# Altium footprint library Connector_FFC-FPC.PcbLib: 184 footprints (part 2 of 12)
Each footprint in its own frame and in the unit in brackets; x right, y up, seen from the top. Pads: shape width x height; smd on the part's side, far side on the other; paste and mask are expansions set on the pad; w line width, h text height; cw(c..) or ccw(c..) is an arc to the next point about the centre after c.
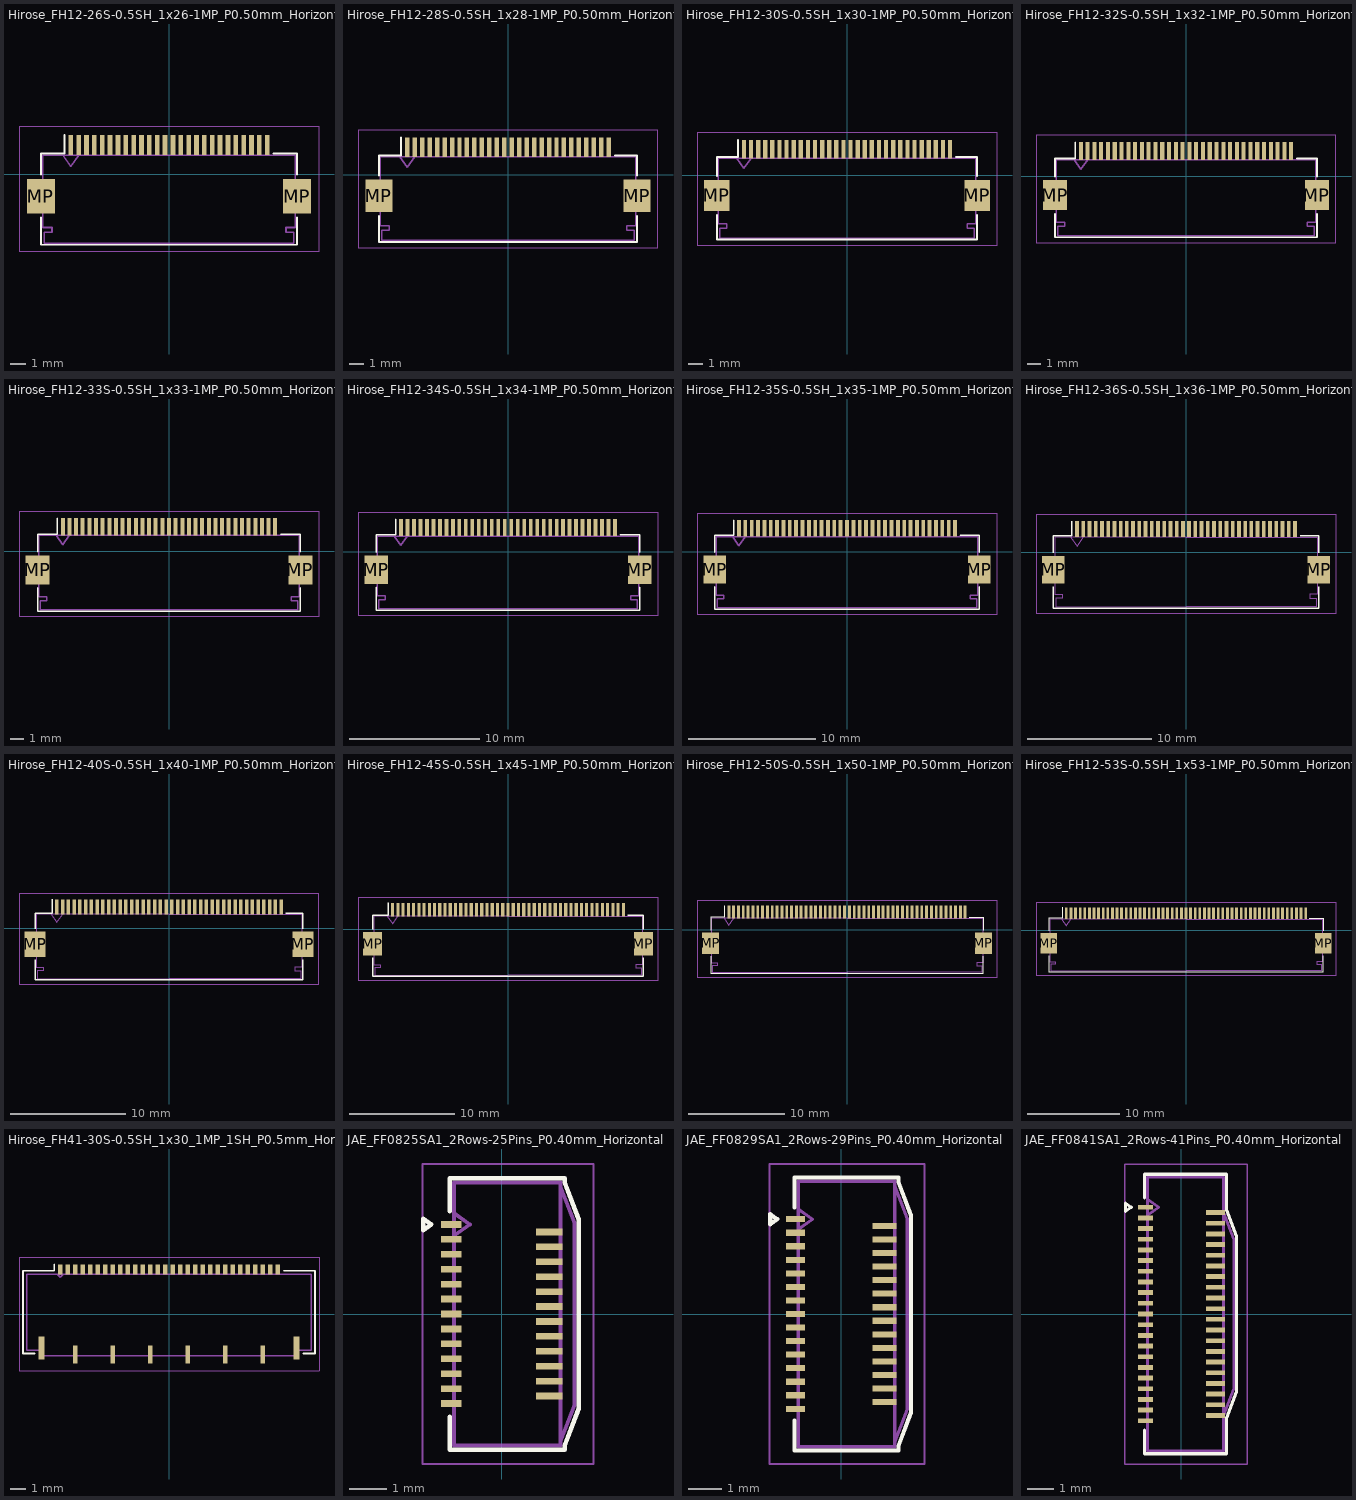
[diagram p1: the footprints below, top view; thin cyan lines are the x and y axes]

## Hirose_FH12-26S-0.5SH_1x26-1MP_P0.50mm_Horizontal [mm]
pads (28):
  rect 0.3x1.3 smd: 1(-6.25,1.85) 2(-5.75,1.85) 3(-5.25,1.85) 4(-4.75,1.85) 5(-4.25,1.85) 6(-3.75,1.85) 7(-3.25,1.85) 8(-2.75,1.85) 9(-2.25,1.85) 10(-1.75,1.85) 11(-1.25,1.85) 12(-0.75,1.85) 13(-0.25,1.85) 14(0.25,1.85) 15(0.75,1.85) 16(1.25,1.85) 17(1.75,1.85) 18(2.25,1.85) 19(2.75,1.85) 20(3.25,1.85) 21(3.75,1.85) 22(4.25,1.85) 23(4.75,1.85) 24(5.25,1.85) 25(5.75,1.85) 26(6.25,1.85)
  rect 1.8x2.2 smd: MP(-8.15,-1.4) MP(8.15,-1.4)
F.SilkS:
  lines w0.12: -8.15,-2.76 -8.15,-4.5 8.15,-4.5 8.15,-2.76 ; -8.15,-0.04 -8.15,1.3 -6.66,1.3 -6.66,2.5 ; 6.66,1.3 8.15,1.3 8.15,-0.04
F.CrtYd:
  lines w0.05: -9.55,-4.9 9.55,-4.9 9.55,3 -9.55,3 -9.55,-4.9
F.Fab:
  lines w0.1: -6.75,1.2 -6.25,0.493 -5.75,1.2 ; -8.05,-3.4 -8.05,1.2 0,1.2 8.05,1.2 8.05,-3.4 7.45,-3.4 7.45,-3.7 7.95,-3.7 7.95,-4.4 0,-4.4 -7.95,-4.4 -7.95,-3.7 -7.45,-3.7 -7.45,-3.4 -8.05,-3.4
  text "'.Designator'" at -4.047,-4.54 h1

## Hirose_FH12-28S-0.5SH_1x28-1MP_P0.50mm_Horizontal [mm]
pads (30):
  rect 0.3x1.3 smd: 1(-6.75,1.85) 2(-6.25,1.85) 3(-5.75,1.85) 4(-5.25,1.85) 5(-4.75,1.85) 6(-4.25,1.85) 7(-3.75,1.85) 8(-3.25,1.85) 9(-2.75,1.85) 10(-2.25,1.85) 11(-1.75,1.85) 12(-1.25,1.85) 13(-0.75,1.85) 14(-0.25,1.85) 15(0.25,1.85) 16(0.75,1.85) 17(1.25,1.85) 18(1.75,1.85) 19(2.25,1.85) 20(2.75,1.85) 21(3.25,1.85) 22(3.75,1.85) 23(4.25,1.85) 24(4.75,1.85) 25(5.25,1.85) 26(5.75,1.85) 27(6.25,1.85) 28(6.75,1.85)
  rect 1.8x2.2 smd: MP(-8.65,-1.4) MP(8.65,-1.4)
F.SilkS:
  lines w0.12: -8.65,-2.76 -8.65,-4.5 8.65,-4.5 8.65,-2.76 ; -8.65,-0.04 -8.65,1.3 -7.16,1.3 -7.16,2.5 ; 7.16,1.3 8.65,1.3 8.65,-0.04
F.CrtYd:
  lines w0.05: -10.05,-4.9 -10.05,3 10.05,3 10.05,-4.9 -10.05,-4.9
F.Fab:
  lines w0.1: -7.25,1.2 -6.75,0.493 -6.25,1.2 ; -8.55,-3.4 -7.95,-3.4 -7.95,-3.7 -8.45,-3.7 -8.45,-4.4 0,-4.4 8.45,-4.4 8.45,-3.7 7.95,-3.7 7.95,-3.4 8.55,-3.4 8.55,1.2 0,1.2 -8.55,1.2 -8.55,-3.4
  text "'.Designator'" at -4.047,-4.54 h1

## Hirose_FH12-30S-0.5SH_1x30-1MP_P0.50mm_Horizontal [mm]
pads (32):
  rect 0.3x1.3 smd: 1(-7.25,1.85) 2(-6.75,1.85) 3(-6.25,1.85) 4(-5.75,1.85) 5(-5.25,1.85) 6(-4.75,1.85) 7(-4.25,1.85) 8(-3.75,1.85) 9(-3.25,1.85) 10(-2.75,1.85) 11(-2.25,1.85) 12(-1.75,1.85) 13(-1.25,1.85) 14(-0.75,1.85) 15(-0.25,1.85) 16(0.25,1.85) 17(0.75,1.85) 18(1.25,1.85) 19(1.75,1.85) 20(2.25,1.85) 21(2.75,1.85) 22(3.25,1.85) 23(3.75,1.85) 24(4.25,1.85) 25(4.75,1.85) 26(5.25,1.85) 27(5.75,1.85) 28(6.25,1.85) 29(6.75,1.85) 30(7.25,1.85)
  rect 1.8x2.2 smd: MP(-9.15,-1.4) MP(9.15,-1.4)
F.SilkS:
  lines w0.12: -9.15,-2.76 -9.15,-4.5 9.15,-4.5 9.15,-2.76 ; -9.15,-0.04 -9.15,1.3 -7.66,1.3 -7.66,2.5 ; 7.66,1.3 9.15,1.3 9.15,-0.04
F.CrtYd:
  lines w0.05: -10.55,-4.9 -10.55,3 10.55,3 10.55,-4.9 -10.55,-4.9
F.Fab:
  lines w0.1: -7.75,1.2 -7.25,0.493 -6.75,1.2 ; -9.05,-3.4 -9.05,1.2 0,1.2 9.05,1.2 9.05,-3.4 8.45,-3.4 8.45,-3.7 8.95,-3.7 8.95,-4.4 0,-4.4 -8.95,-4.4 -8.95,-3.7 -8.45,-3.7 -8.45,-3.4 -9.05,-3.4
  text "'.Designator'" at -4.047,-4.54 h1

## Hirose_FH12-32S-0.5SH_1x32-1MP_P0.50mm_Horizontal [mm]
pads (34):
  rect 0.3x1.3 smd: 1(-7.75,1.85) 2(-7.25,1.85) 3(-6.75,1.85) 4(-6.25,1.85) 5(-5.75,1.85) 6(-5.25,1.85) 7(-4.75,1.85) 8(-4.25,1.85) 9(-3.75,1.85) 10(-3.25,1.85) 11(-2.75,1.85) 12(-2.25,1.85) 13(-1.75,1.85) 14(-1.25,1.85) 15(-0.75,1.85) 16(-0.25,1.85) 17(0.25,1.85) 18(0.75,1.85) 19(1.25,1.85) 20(1.75,1.85) 21(2.25,1.85) 22(2.75,1.85) 23(3.25,1.85) 24(3.75,1.85) 25(4.25,1.85) 26(4.75,1.85) 27(5.25,1.85) 28(5.75,1.85) 29(6.25,1.85) 30(6.75,1.85) 31(7.25,1.85) 32(7.75,1.85)
  rect 1.8x2.2 smd: MP(-9.65,-1.4) MP(9.65,-1.4)
F.SilkS:
  lines w0.12: -9.65,-2.76 -9.65,-4.5 9.65,-4.5 9.65,-2.76 ; -9.65,-0.04 -9.65,1.3 -8.16,1.3 -8.16,2.5 ; 8.16,1.3 9.65,1.3 9.65,-0.04
F.CrtYd:
  lines w0.05: -11.05,-4.9 11.05,-4.9 11.05,3 -11.05,3 -11.05,-4.9
F.Fab:
  lines w0.1: -8.25,1.2 -7.75,0.493 -7.25,1.2 ; -9.55,-3.4 -9.55,1.2 0,1.2 9.55,1.2 9.55,-3.4 8.95,-3.4 8.95,-3.7 9.45,-3.7 9.45,-4.4 0,-4.4 -9.45,-4.4 -9.45,-3.7 -8.95,-3.7 -8.95,-3.4 -9.55,-3.4
  text "'.Designator'" at -4.047,-4.54 h1

## Hirose_FH12-33S-0.5SH_1x33-1MP_P0.50mm_Horizontal [mm]
pads (35):
  rect 0.3x1.3 smd: 1(-8,1.85) 2(-7.5,1.85) 3(-7,1.85) 4(-6.5,1.85) 5(-6,1.85) 6(-5.5,1.85) 7(-5,1.85) 8(-4.5,1.85) 9(-4,1.85) 10(-3.5,1.85) 11(-3,1.85) 12(-2.5,1.85) 13(-2,1.85) 14(-1.5,1.85) 15(-1,1.85) 16(-0.5,1.85) 17(0,1.85) 18(0.5,1.85) 19(1,1.85) 20(1.5,1.85) 21(2,1.85) 22(2.5,1.85) 23(3,1.85) 24(3.5,1.85) 25(4,1.85) 26(4.5,1.85) 27(5,1.85) 28(5.5,1.85) 29(6,1.85) 30(6.5,1.85) 31(7,1.85) 32(7.5,1.85) 33(8,1.85)
  rect 1.8x2.2 smd: MP(-9.9,-1.4) MP(9.9,-1.4)
F.SilkS:
  lines w0.12: -9.9,-2.76 -9.9,-4.5 9.9,-4.5 9.9,-2.76 ; -9.9,-0.04 -9.9,1.3 -8.41,1.3 -8.41,2.5 ; 8.41,1.3 9.9,1.3 9.9,-0.04
F.CrtYd:
  lines w0.05: -11.3,-4.9 -11.3,3 11.3,3 11.3,-4.9 -11.3,-4.9
F.Fab:
  lines w0.1: -8.5,1.2 -8,0.493 -7.5,1.2 ; -9.8,-3.4 -9.2,-3.4 -9.2,-3.7 -9.7,-3.7 -9.7,-4.4 0,-4.4 9.7,-4.4 9.7,-3.7 9.2,-3.7 9.2,-3.4 9.8,-3.4 9.8,1.2 0,1.2 -9.8,1.2 -9.8,-3.4
  text "'.Designator'" at -4.047,-4.54 h1

## Hirose_FH12-34S-0.5SH_1x34-1MP_P0.50mm_Horizontal [mm]
pads (36):
  rect 0.3x1.3 smd: 1(-8.25,1.85) 2(-7.75,1.85) 3(-7.25,1.85) 4(-6.75,1.85) 5(-6.25,1.85) 6(-5.75,1.85) 7(-5.25,1.85) 8(-4.75,1.85) 9(-4.25,1.85) 10(-3.75,1.85) 11(-3.25,1.85) 12(-2.75,1.85) 13(-2.25,1.85) 14(-1.75,1.85) 15(-1.25,1.85) 16(-0.75,1.85) 17(-0.25,1.85) 18(0.25,1.85) 19(0.75,1.85) 20(1.25,1.85) 21(1.75,1.85) 22(2.25,1.85) 23(2.75,1.85) 24(3.25,1.85) 25(3.75,1.85) 26(4.25,1.85) 27(4.75,1.85) 28(5.25,1.85) 29(5.75,1.85) 30(6.25,1.85) 31(6.75,1.85) 32(7.25,1.85) 33(7.75,1.85) 34(8.25,1.85)
  rect 1.8x2.2 smd: MP(-10.15,-1.4) MP(10.15,-1.4)
F.SilkS:
  lines w0.12: -10.15,-2.76 -10.15,-4.5 10.15,-4.5 10.15,-2.76 ; -10.15,-0.04 -10.15,1.3 -8.66,1.3 -8.66,2.5 ; 8.66,1.3 10.15,1.3 10.15,-0.04
F.CrtYd:
  lines w0.05: -11.55,-4.9 -11.55,3 11.55,3 11.55,-4.9 -11.55,-4.9
F.Fab:
  lines w0.1: -8.75,1.2 -8.25,0.493 -7.75,1.2 ; -10.05,-3.4 -10.05,1.2 0,1.2 10.05,1.2 10.05,-3.4 9.45,-3.4 9.45,-3.7 9.95,-3.7 9.95,-4.4 0,-4.4 -9.95,-4.4 -9.95,-3.7 -9.45,-3.7 -9.45,-3.4 -10.05,-3.4
  text "'.Designator'" at -4.047,-4.54 h1

## Hirose_FH12-35S-0.5SH_1x35-1MP_P0.50mm_Horizontal [mm]
pads (37):
  rect 0.3x1.3 smd: 1(-8.5,1.85) 2(-8,1.85) 3(-7.5,1.85) 4(-7,1.85) 5(-6.5,1.85) 6(-6,1.85) 7(-5.5,1.85) 8(-5,1.85) 9(-4.5,1.85) 10(-4,1.85) 11(-3.5,1.85) 12(-3,1.85) 13(-2.5,1.85) 14(-2,1.85) 15(-1.5,1.85) 16(-1,1.85) 17(-0.5,1.85) 18(0,1.85) 19(0.5,1.85) 20(1,1.85) 21(1.5,1.85) 22(2,1.85) 23(2.5,1.85) 24(3,1.85) 25(3.5,1.85) 26(4,1.85) 27(4.5,1.85) 28(5,1.85) 29(5.5,1.85) 30(6,1.85) 31(6.5,1.85) 32(7,1.85) 33(7.5,1.85) 34(8,1.85) 35(8.5,1.85)
  rect 1.8x2.2 smd: MP(-10.4,-1.4) MP(10.4,-1.4)
F.SilkS:
  lines w0.12: -10.4,-2.76 -10.4,-4.5 10.4,-4.5 10.4,-2.76 ; -10.4,-0.04 -10.4,1.3 -8.91,1.3 -8.91,2.5 ; 8.91,1.3 10.4,1.3 10.4,-0.04
F.CrtYd:
  lines w0.05: -11.8,-4.9 11.8,-4.9 11.8,3 -11.8,3 -11.8,-4.9
F.Fab:
  lines w0.1: -9,1.2 -8.5,0.493 -8,1.2 ; -10.3,-3.4 -9.7,-3.4 -9.7,-3.7 -10.2,-3.7 -10.2,-4.4 0,-4.4 10.2,-4.4 10.2,-3.7 9.7,-3.7 9.7,-3.4 10.3,-3.4 10.3,1.2 0,1.2 -10.3,1.2 -10.3,-3.4
  text "'.Designator'" at -4.047,-4.54 h1

## Hirose_FH12-36S-0.5SH_1x36-1MP_P0.50mm_Horizontal [mm]
pads (38):
  rect 0.3x1.3 smd: 1(-8.75,1.85) 2(-8.25,1.85) 3(-7.75,1.85) 4(-7.25,1.85) 5(-6.75,1.85) 6(-6.25,1.85) 7(-5.75,1.85) 8(-5.25,1.85) 9(-4.75,1.85) 10(-4.25,1.85) 11(-3.75,1.85) 12(-3.25,1.85) 13(-2.75,1.85) 14(-2.25,1.85) 15(-1.75,1.85) 16(-1.25,1.85) 17(-0.75,1.85) 18(-0.25,1.85) 19(0.25,1.85) 20(0.75,1.85) 21(1.25,1.85) 22(1.75,1.85) 23(2.25,1.85) 24(2.75,1.85) 25(3.25,1.85) 26(3.75,1.85) 27(4.25,1.85) 28(4.75,1.85) 29(5.25,1.85) 30(5.75,1.85) 31(6.25,1.85) 32(6.75,1.85) 33(7.25,1.85) 34(7.75,1.85) 35(8.25,1.85) 36(8.75,1.85)
  rect 1.8x2.2 smd: MP(-10.65,-1.4) MP(10.65,-1.4)
F.SilkS:
  lines w0.12: -10.65,-2.76 -10.65,-4.5 10.65,-4.5 10.65,-2.76 ; -10.65,-0.04 -10.65,1.3 -9.16,1.3 -9.16,2.5 ; 9.16,1.3 10.65,1.3 10.65,-0.04
F.CrtYd:
  lines w0.05: -12.05,-4.9 12.05,-4.9 12.05,3 -12.05,3 -12.05,-4.9
F.Fab:
  lines w0.1: -9.25,1.2 -8.75,0.493 -8.25,1.2 ; -10.55,-3.4 -9.95,-3.4 -9.95,-3.7 -10.45,-3.7 -10.45,-4.4 0,-4.4 10.45,-4.4 10.45,-3.7 9.95,-3.7 9.95,-3.4 10.55,-3.4 10.55,1.2 0,1.2 -10.55,1.2 -10.55,-3.4
  text "'.Designator'" at -4.047,-4.54 h1

## Hirose_FH12-40S-0.5SH_1x40-1MP_P0.50mm_Horizontal [mm]
pads (42):
  rect 0.3x1.3 smd: 1(-9.75,1.85) 2(-9.25,1.85) 3(-8.75,1.85) 4(-8.25,1.85) 5(-7.75,1.85) 6(-7.25,1.85) 7(-6.75,1.85) 8(-6.25,1.85) 9(-5.75,1.85) 10(-5.25,1.85) 11(-4.75,1.85) 12(-4.25,1.85) 13(-3.75,1.85) 14(-3.25,1.85) 15(-2.75,1.85) 16(-2.25,1.85) 17(-1.75,1.85) 18(-1.25,1.85) 19(-0.75,1.85) 20(-0.25,1.85) 21(0.25,1.85) 22(0.75,1.85) 23(1.25,1.85) 24(1.75,1.85) 25(2.25,1.85) 26(2.75,1.85) 27(3.25,1.85) 28(3.75,1.85) 29(4.25,1.85) 30(4.75,1.85) 31(5.25,1.85) 32(5.75,1.85) 33(6.25,1.85) 34(6.75,1.85) 35(7.25,1.85) 36(7.75,1.85) 37(8.25,1.85) 38(8.75,1.85) 39(9.25,1.85) 40(9.75,1.85)
  rect 1.8x2.2 smd: MP(-11.65,-1.4) MP(11.65,-1.4)
F.SilkS:
  lines w0.12: -11.65,-2.76 -11.65,-4.5 11.65,-4.5 11.65,-2.76 ; -11.65,-0.04 -11.65,1.3 -10.16,1.3 -10.16,2.5 ; 10.16,1.3 11.65,1.3 11.65,-0.04
F.CrtYd:
  lines w0.05: -13.05,-4.9 -13.05,3 13.05,3 13.05,-4.9 -13.05,-4.9
F.Fab:
  lines w0.1: -10.25,1.2 -9.75,0.493 -9.25,1.2 ; -11.55,-3.4 -11.55,1.2 0,1.2 11.55,1.2 11.55,-3.4 10.95,-3.4 10.95,-3.7 11.45,-3.7 11.45,-4.4 0,-4.4 -11.45,-4.4 -11.45,-3.7 -10.95,-3.7 -10.95,-3.4 -11.55,-3.4
  text "'.Designator'" at -4.047,-4.54 h1

## Hirose_FH12-45S-0.5SH_1x45-1MP_P0.50mm_Horizontal [mm]
pads (47):
  rect 0.3x1.3 smd: 1(-11,1.85) 2(-10.5,1.85) 3(-10,1.85) 4(-9.5,1.85) 5(-9,1.85) 6(-8.5,1.85) 7(-8,1.85) 8(-7.5,1.85) 9(-7,1.85) 10(-6.5,1.85) 11(-6,1.85) 12(-5.5,1.85) 13(-5,1.85) 14(-4.5,1.85) 15(-4,1.85) 16(-3.5,1.85) 17(-3,1.85) 18(-2.5,1.85) 19(-2,1.85) 20(-1.5,1.85) 21(-1,1.85) 22(-0.5,1.85) 23(0,1.85) 24(0.5,1.85) 25(1,1.85) 26(1.5,1.85) 27(2,1.85) 28(2.5,1.85) 29(3,1.85) 30(3.5,1.85) 31(4,1.85) 32(4.5,1.85) 33(5,1.85) 34(5.5,1.85) 35(6,1.85) 36(6.5,1.85) 37(7,1.85) 38(7.5,1.85) 39(8,1.85) 40(8.5,1.85) 41(9,1.85) 42(9.5,1.85) 43(10,1.85) 44(10.5,1.85) 45(11,1.85)
  rect 1.8x2.2 smd: MP(-12.9,-1.4) MP(12.9,-1.4)
F.SilkS:
  lines w0.12: -12.9,-2.76 -12.9,-4.5 12.9,-4.5 12.9,-2.76 ; -12.9,-0.04 -12.9,1.3 -11.41,1.3 -11.41,2.5 ; 11.41,1.3 12.9,1.3 12.9,-0.04
F.CrtYd:
  lines w0.05: -14.3,-4.9 -14.3,3 14.3,3 14.3,-4.9 -14.3,-4.9
F.Fab:
  lines w0.1: -11.5,1.2 -11,0.493 -10.5,1.2 ; -12.8,-3.4 -12.2,-3.4 -12.2,-3.7 -12.7,-3.7 -12.7,-4.4 0,-4.4 12.7,-4.4 12.7,-3.7 12.2,-3.7 12.2,-3.4 12.8,-3.4 12.8,1.2 0,1.2 -12.8,1.2 -12.8,-3.4
  text "'.Designator'" at -4.047,-4.54 h1

## Hirose_FH12-50S-0.5SH_1x50-1MP_P0.50mm_Horizontal [mm]
pads (52):
  rect 0.3x1.3 smd: 1(-12.25,1.85) 2(-11.75,1.85) 3(-11.25,1.85) 4(-10.75,1.85) 5(-10.25,1.85) 6(-9.75,1.85) 7(-9.25,1.85) 8(-8.75,1.85) 9(-8.25,1.85) 10(-7.75,1.85) 11(-7.25,1.85) 12(-6.75,1.85) 13(-6.25,1.85) 14(-5.75,1.85) 15(-5.25,1.85) 16(-4.75,1.85) 17(-4.25,1.85) 18(-3.75,1.85) 19(-3.25,1.85) 20(-2.75,1.85) 21(-2.25,1.85) 22(-1.75,1.85) 23(-1.25,1.85) 24(-0.75,1.85) 25(-0.25,1.85) 26(0.25,1.85) 27(0.75,1.85) 28(1.25,1.85) 29(1.75,1.85) 30(2.25,1.85) 31(2.75,1.85) 32(3.25,1.85) 33(3.75,1.85) 34(4.25,1.85) 35(4.75,1.85) 36(5.25,1.85) 37(5.75,1.85) 38(6.25,1.85) 39(6.75,1.85) 40(7.25,1.85) 41(7.75,1.85) 42(8.25,1.85) 43(8.75,1.85) 44(9.25,1.85) 45(9.75,1.85) 46(10.25,1.85) 47(10.75,1.85) 48(11.25,1.85) 49(11.75,1.85) 50(12.25,1.85)
  rect 1.8x2.2 smd: MP(-14.15,-1.4) MP(14.15,-1.4)
F.SilkS:
  lines w0.12: -14.15,-2.76 -14.15,-4.5 14.15,-4.5 14.15,-2.76 ; -14.15,-0.04 -14.15,1.3 -12.66,1.3 -12.66,2.5 ; 12.66,1.3 14.15,1.3 14.15,-0.04
F.CrtYd:
  lines w0.05: -15.55,-4.9 -15.55,3 15.55,3 15.55,-4.9 -15.55,-4.9
F.Fab:
  lines w0.1: -12.75,1.2 -12.25,0.493 -11.75,1.2 ; -14.05,-3.4 -13.45,-3.4 -13.45,-3.7 -13.95,-3.7 -13.95,-4.4 0,-4.4 13.95,-4.4 13.95,-3.7 13.45,-3.7 13.45,-3.4 14.05,-3.4 14.05,1.2 0,1.2 -14.05,1.2 -14.05,-3.4
  text "'.Designator'" at -4.047,-4.54 h1

## Hirose_FH12-53S-0.5SH_1x53-1MP_P0.50mm_Horizontal [mm]
pads (55):
  rect 0.3x1.3 smd: 1(-13,1.85) 2(-12.5,1.85) 3(-12,1.85) 4(-11.5,1.85) 5(-11,1.85) 6(-10.5,1.85) 7(-10,1.85) 8(-9.5,1.85) 9(-9,1.85) 10(-8.5,1.85) 11(-8,1.85) 12(-7.5,1.85) 13(-7,1.85) 14(-6.5,1.85) 15(-6,1.85) 16(-5.5,1.85) 17(-5,1.85) 18(-4.5,1.85) 19(-4,1.85) 20(-3.5,1.85) 21(-3,1.85) 22(-2.5,1.85) 23(-2,1.85) 24(-1.5,1.85) 25(-1,1.85) 26(-0.5,1.85) 27(0,1.85) 28(0.5,1.85) 29(1,1.85) 30(1.5,1.85) 31(2,1.85) 32(2.5,1.85) 33(3,1.85) 34(3.5,1.85) 35(4,1.85) 36(4.5,1.85) 37(5,1.85) 38(5.5,1.85) 39(6,1.85) 40(6.5,1.85) 41(7,1.85) 42(7.5,1.85) 43(8,1.85) 44(8.5,1.85) 45(9,1.85) 46(9.5,1.85) 47(10,1.85) 48(10.5,1.85) 49(11,1.85) 50(11.5,1.85) 51(12,1.85) 52(12.5,1.85) 53(13,1.85)
  rect 1.8x2.2 smd: MP(-14.9,-1.4) MP(14.9,-1.4)
F.SilkS:
  lines w0.12: -14.9,-2.76 -14.9,-4.5 14.9,-4.5 14.9,-2.76 ; -14.9,-0.04 -14.9,1.3 -13.41,1.3 -13.41,2.5 ; 13.41,1.3 14.9,1.3 14.9,-0.04
F.CrtYd:
  lines w0.05: -16.3,-4.9 -16.3,3 16.3,3 16.3,-4.9 -16.3,-4.9
F.Fab:
  lines w0.1: -13.5,1.2 -13,0.493 -12.5,1.2 ; -14.8,-3.4 -14.8,1.2 0,1.2 14.8,1.2 14.8,-3.4 14.2,-3.4 14.2,-3.7 14.7,-3.7 14.7,-4.4 0,-4.4 -14.7,-4.4 -14.7,-3.7 -14.2,-3.7 -14.2,-3.4 -14.8,-3.4
  text "'.Designator'" at -4.047,-4.54 h1

## Hirose_FH41-30S-0.5SH_1x30_1MP_1SH_P0.5mm_Horizontal [mm]
pads (38):
  rect 0.3x0.65 smd: 1(-7.25,2.975) 2(-6.75,2.975) 3(-6.25,2.975) 4(-5.75,2.975) 5(-5.25,2.975) 6(-4.75,2.975) 7(-4.25,2.975) 8(-3.75,2.975) 9(-3.25,2.975) 10(-2.75,2.975) 11(-2.25,2.975) 12(-1.75,2.975) 13(-1.25,2.975) 14(-0.75,2.975) 15(-0.25,2.975) 16(0.25,2.975) 17(0.75,2.975) 18(1.25,2.975) 19(1.75,2.975) 20(2.25,2.975) 21(2.75,2.975) 22(3.25,2.975) 23(3.75,2.975) 24(4.25,2.975) 25(4.75,2.975) 26(5.25,2.975) 27(5.75,2.975) 28(6.25,2.975) 29(6.75,2.975) 30(7.25,2.975)
  rect 0.4x1.55 smd: MP(-8.5,-2.275) MP(8.5,-2.275)
  rect 0.3x1.2 smd: SH(-6.25,-2.7) SH(-3.75,-2.7) SH(-1.25,-2.7) SH(1.25,-2.7) SH(3.75,-2.7) SH(6.25,-2.7)
F.SilkS:
  lines w0.12: -8.96,-2.63 -9.73,-2.63 -9.73,2.88 -7.66,2.88 ; -7.65,2.88 -7.65,3.3 ; 7.66,2.88 9.73,2.88 9.73,-2.63 8.96,-2.63
F.CrtYd:
  lines w0.05: -10,-3.8 10,-3.8 10,3.8 -10,3.8 -10,-3.8
F.Fab:
  lines w0.1: -7.45,2.65 -7.25,2.45 -7.05,2.65 ; -9.5,-2.4 -8.475,-2.4 -8.475,-2.8 8.475,-2.8 8.475,-2.4 9.5,-2.4 9.5,2.65 -9.5,2.65 -9.5,-2.4
  text "'.Designator'" at -4.047,-0.915 h1

## JAE_FF0825SA1_2Rows-25Pins_P0.40mm_Horizontal [mm]
pads (25):
  rect 0.55x0.18 smd: 1(-1.35,2.4) 3(-1.35,2) 5(-1.35,1.6) 7(-1.35,1.2) 9(-1.35,0.8) 11(-1.35,0.4) 13(-1.35,0) 15(-1.35,-0.4) 17(-1.35,-0.8) 19(-1.35,-1.2) 21(-1.35,-1.6) 23(-1.35,-2) 25(-1.35,-2.4)
  rect 0.7x0.18 smd: 2(1.275,2.2) 4(1.275,1.8) 6(1.275,1.4) 8(1.275,1) 10(1.275,0.6) 12(1.275,0.2) 14(1.275,-0.2) 16(1.275,-0.6) 18(1.275,-1) 20(1.275,-1.4) 22(1.275,-1.8) 24(1.275,-2.2)
F.SilkS:
  lines w0.12: -1.385,-2.75 -1.385,-3.635 1.685,-3.635 1.685,-3.535 2.065,-2.535 2.065,0 2.065,2.535 1.685,3.535 1.685,3.635 -1.385,3.635 -1.385,2.75 ; -2.097,2.25 -1.885,2.4 -2.097,2.55 -2.097,2.25
F.CrtYd:
  lines w0.05: -2.12,-4.02 2.46,-4.02 2.46,4.02 -2.12,4.02 -2.12,-4.02
F.Fab:
  lines w0.1: -1.275,2.1 -0.851,2.4 -1.275,2.7 ; 1.575,-3.425 1.955,-2.425 1.955,2.425 1.575,3.425 ; -1.275,-3.525 -1.275,3.525 1.575,3.525 1.575,-3.525 -1.275,-3.525
  text "'.Designator'" at 1.62,-2.877 h0.71

## JAE_FF0829SA1_2Rows-29Pins_P0.40mm_Horizontal [mm]
pads (29):
  rect 0.55x0.18 smd: 1(-1.35,2.8) 3(-1.35,2.4) 5(-1.35,2) 7(-1.35,1.6) 9(-1.35,1.2) 11(-1.35,0.8) 13(-1.35,0.4) 15(-1.35,0) 17(-1.35,-0.4) 19(-1.35,-0.8) 21(-1.35,-1.2) 23(-1.35,-1.6) 25(-1.35,-2) 27(-1.35,-2.4) 29(-1.35,-2.8)
  rect 0.7x0.18 smd: 2(1.275,2.6) 4(1.275,2.2) 6(1.275,1.8) 8(1.275,1.4) 10(1.275,1) 12(1.275,0.6) 14(1.275,0.2) 16(1.275,-0.2) 18(1.275,-0.6) 20(1.275,-1) 22(1.275,-1.4) 24(1.275,-1.8) 26(1.275,-2.2) 28(1.275,-2.6)
F.SilkS:
  lines w0.12: -1.385,-3.15 -1.385,-4.035 1.685,-4.035 1.685,-3.91 2.065,-2.91 2.065,0 2.065,2.91 1.685,3.91 1.685,4.035 -1.385,4.035 -1.385,3.15 ; -2.097,2.65 -2.097,2.95 -1.885,2.8 -2.097,2.65
F.CrtYd:
  lines w0.05: -2.12,-4.43 -2.12,4.43 2.46,4.43 2.46,-4.43 -2.12,-4.43
F.Fab:
  lines w0.1: -1.275,2.5 -0.851,2.8 -1.275,3.1 ; 1.575,-3.8 1.955,-2.8 1.955,2.8 1.575,3.8 ; -1.275,-3.925 -1.275,3.925 1.575,3.925 1.575,-3.925 -1.275,-3.925
  text "'.Designator'" at 1.62,-2.877 h0.71

## JAE_FF0841SA1_2Rows-41Pins_P0.40mm_Horizontal [mm]
pads (41):
  rect 0.55x0.18 smd: 1(-1.35,4) 3(-1.35,3.6) 5(-1.35,3.2) 7(-1.35,2.8) 9(-1.35,2.4) 11(-1.35,2) 13(-1.35,1.6) 15(-1.35,1.2) 17(-1.35,0.8) 19(-1.35,0.4) 21(-1.35,0) 23(-1.35,-0.4) 25(-1.35,-0.8) 27(-1.35,-1.2) 29(-1.35,-1.6) 31(-1.35,-2) 33(-1.35,-2.4) 35(-1.35,-2.8) 37(-1.35,-3.2) 39(-1.35,-3.6) 41(-1.35,-4)
  rect 0.7x0.18 smd: 2(1.275,3.8) 4(1.275,3.4) 6(1.275,3) 8(1.275,2.6) 10(1.275,2.2) 12(1.275,1.8) 14(1.275,1.4) 16(1.275,1) 18(1.275,0.6) 20(1.275,0.2) 22(1.275,-0.2) 24(1.275,-0.6) 26(1.275,-1) 28(1.275,-1.4) 30(1.275,-1.8) 32(1.275,-2.2) 34(1.275,-2.6) 36(1.275,-3) 38(1.275,-3.4) 40(1.275,-3.8)
F.SilkS:
  lines w0.12: -1.385,-4.35 -1.385,-5.235 1.685,-5.235 1.685,-3.91 2.065,-2.91 2.065,0 2.065,2.91 1.685,3.91 1.685,5.235 -1.385,5.235 -1.385,4.35 ; -2.097,3.85 -2.097,4.15 -1.885,4 -2.097,3.85
F.CrtYd:
  lines w0.05: -2.12,-5.62 2.46,-5.62 2.46,5.62 -2.12,5.62 -2.12,-5.62
F.Fab:
  lines w0.1: -1.275,3.7 -0.851,4 -1.275,4.3 ; 1.575,-3.8 1.955,-2.8 1.955,2.8 1.575,3.8 ; -1.275,-5.125 1.575,-5.125 1.575,5.125 -1.275,5.125 -1.275,-5.125
  text "'.Designator'" at 1.62,-2.877 h0.71